# EAGLE library part IMU (library quadparts_Zhe)
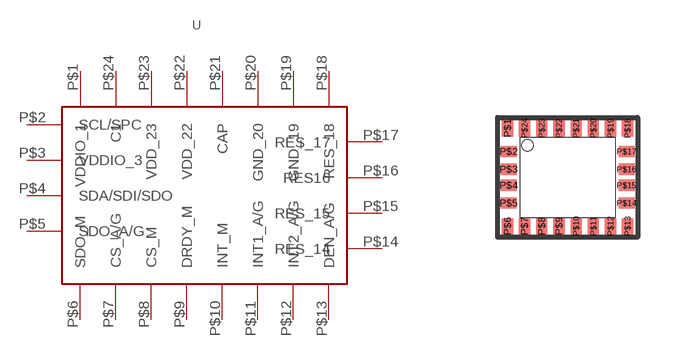
[diagram p0: symbol with the pads of 9-AXIS_IMU; footprint 9-AXIS_IMU]

Designator prefix -

## IMU (CREATOR: Zhe; DIST: Digikey; DISTPN: 497-14946-1-ND; MFR: STMicroelectronics; MPN: LSM9DS1TR; REVIEWER: None)  [9-AXIS_IMU]
P$1  VDDIO_1
P$2  SCL/SPC
P$3  VDDIO_3
P$4  SDA/SDI/SDO
P$5  SDO_A/G
P$6  SDO_M
P$7  CS_A/G
P$8  CS_M
P$9  DRDY_M
P$10  INT_M
P$11  INT1_A/G
P$12  INT2_A/G
P$13  DEN_A/G
P$14  RES_14
P$15  RES_15
P$16  RES16
P$17  RES_17
P$18  RES_18
P$19  GND_19
P$20  GND_20
P$21  CAP
P$22  VDD_22
P$23  VDD_23
P$24  C1

## Footprint 9-AXIS_IMU (pad centres in mm)
smd 0.28 x 0.4: P$1 -1.5,1.225; P$6 -1.5,-1.225; P$7 -1.075,-1.225; P$8 -0.645,-1.225; P$9 -0.215,-1.225; P$10 0.215,-1.225; P$11 0.645,-1.225; P$12 1.075,-1.225; P$13 1.5,-1.225; P$18 1.5,1.225; P$19 1.075,1.225; P$20 0.645,1.225; P$21 0.215,1.225; P$22 -0.215,1.225; P$23 -0.645,1.225; P$24 -1.075,1.225
smd 0.4 x 0.28: P$2 -1.475,0.645; P$3 -1.475,0.2; P$4 -1.475,-0.2; P$5 -1.475,-0.645; P$14 1.475,-0.645; P$15 1.475,-0.2; P$16 1.475,0.2; P$17 1.475,0.645